# Altium schematic symbol library QUT EESS Schems.SchLib: 25 symbols
Pins are listed as number, name and electrical type; pins without a type are passive.

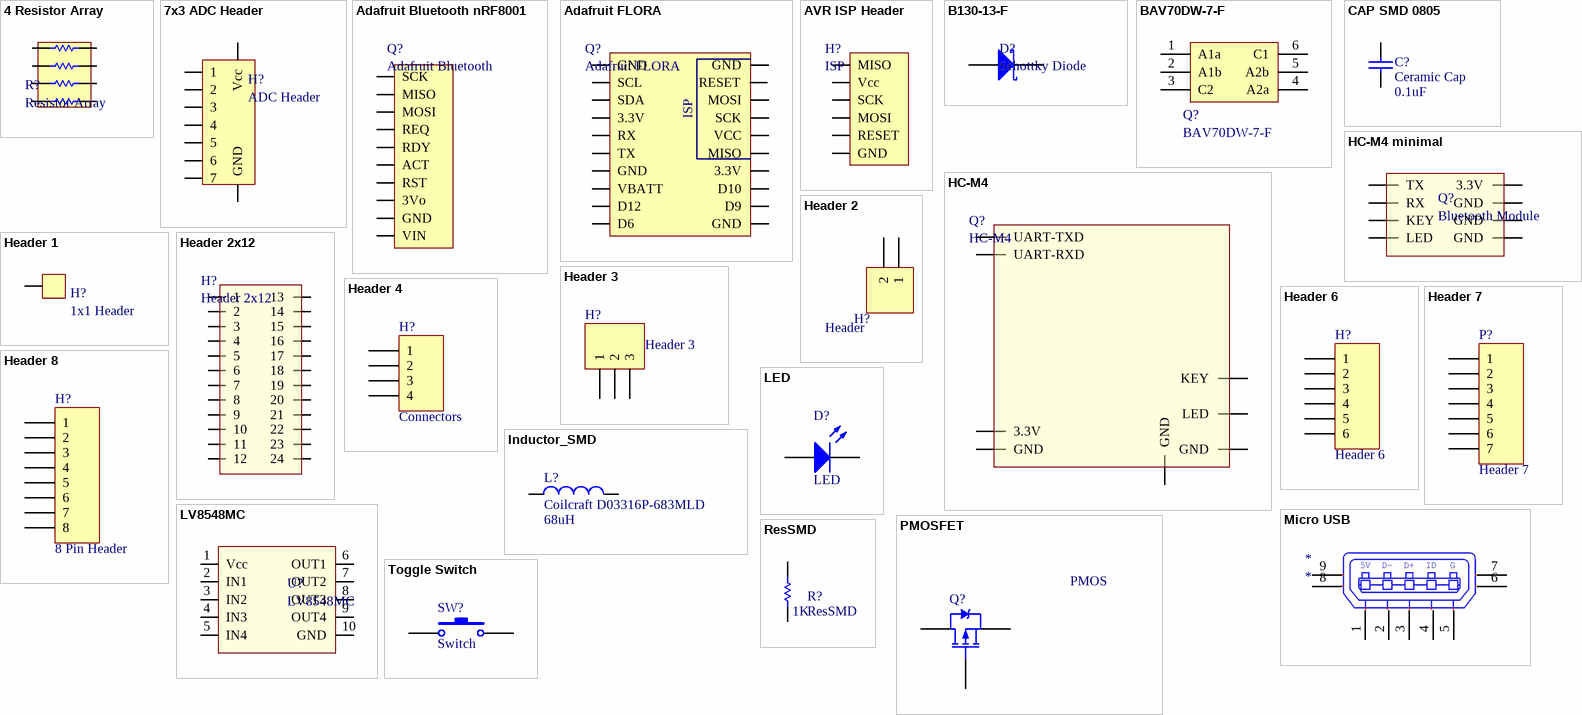
[diagram p0: symbols 4 Resistor Array to Toggle Switch]

## 4 Resistor Array
designator R?, comment Resistor Array
8 pin 4 resistor array
footprint ACAS 0612 AT Res array (8 Pin Resistor Array)
pins: 1, 2, 3, 4, 5, 6, 7, 8

## 7x3 ADC Header
designator H?, comment ADC Header
An ADC header with 7 individual pins and 2x7 power pins
footprint Header 7x3 (Standard 2.54mm pitch 7x3 pin NOTE PIN NUMBERING)
pins: 1, 2, 3, 4, 5, 6, 7, 8 Vcc, 9 hidden to +5V, 10 hidden to +5V, 11 hidden to +5V, 12 hidden to +5V, 13 hidden to +5V, 14 hidden to +5V, 15 GND, 16 hidden to GND, 17 hidden to GND, 18 hidden to GND, 19 hidden to GND, 20 hidden to GND, 21 hidden to GND

## Adafruit Bluetooth nRF8001
designator Q?, comment Adafruit Bluetooth
Breakout for the Adafruit Bluetooth module NRF8001 BLE 4.0
footprint Adafruit Bluetooth NRF8001 (Breakout for the Adafruit Bluetooth module NRF8001 BLE 4.0)
pins: 1 SCK, 2 MISO, 3 MOSI, 4 REQ, 5 RDY, 6 ACT, 7 RST, 8 3Vo, 9 GND, 10 VIN

## Adafruit FLORA
designator Q?
Adafruit FLORA Break Out
footprint Adafruit FLORA (Breakout for the Adafruit FLORA)
pins: 1 GND, 2 SCL, 3 SDA, 4 3.3V, 5 RX, 6 TX, 7 GND, 8 VBATT, 9 D12, 10 D6, 11 GND, 12 D9, 13 D10, 14 3.3V, 15 MISO, 16 VCC, 17 SCK, 18 MOSI, 19 RESET, 20 GND
text: ISP

## AVR ISP Header
designator H?, comment ISP
AVR ISP Header
footprint AVR ISP THROUGH (Standard 2x3 AVR ISP Header)
footprint AVR ISP SMD (Standard 2x3 AVR ISP SMD Header)
pins: 1 MISO, 2 Vcc, 3 SCK, 4 MOSI, 5 RESET, 6 GND

## B130-13-F
designator D?, comment Schottky Diode
footprint B130-13-F
pins: A, K

## BAV70DW-7-F
designator Q?
2 Dual ESD Diode
footprint BAV70DW-7-F
pins: 1 A1a, 2 A1b, 3 C2, 4 A2a, 5 A2b, 6 C1

## CAP SMD 0805
designator C?, comment Ceramic Cap  value 0.1uF
Multi-layer ceramic capacitor 0805 size
footprint RES SMD 0805
pins: 1, 2

## HC-M4
designator Q?
Bluetooth Module
footprint HC-M4
pins: 1 UART-TXD, 2 UART-RXD, 3 hidden to GND, 4 hidden to GND, 5 hidden to GND, 6 hidden to GND, 7 hidden to GND, 8 hidden to GND, 9 hidden to GND, 10 hidden to GND, 11 hidden to GND, 12 3.3V, 13 GND, 14 hidden to GND, 15 hidden to GND, 16 hidden to GND, 17 hidden to GND, 18 hidden to GND, 19 hidden to 20, 20 hidden to GND, 21 GND, 22 GND, 23 hidden to GND, 24 LED, 25 hidden to GND, 26 KEY, 27 hidden to GND, 28 hidden to GND, 29 hidden to GND, 30 hidden to GND, 31 hidden to GND, 32 hidden to GND, 33 hidden to GND, 34 hidden to GND

## HC-M4 minimal
designator Q?, comment Bluetooth Module
footprint HC-M4
pins: 1 TX, 2 RX, 12 3.3V, 13 GND, 21 GND, 22 GND, 24 LED, 26 KEY

## Header 1
designator H?, comment 1x1 Header
Header, 1x1 Pin
footprint Header 1 Pin (Single Male Header 1x1)
pins: 1

## Header 2
designator H?, comment Header
Header, 2-Pin; LatestRevisionDate: 17-Jul-2002; LatestRevisionNote: Re-released for DXP Platform.; Publisher: Altium Limited
signal-integrity model Connector
footprint Header 2 Pin (2x1 Header)
footprint Header2way (phoenix contact 2 way screw terminal header)
pins: 1, 2

## Header 2x12
designator H?
footprint Header 2x12
pins: 1, 2, 3, 4, 5, 6, 7, 8, 9, 10, 11, 12, 13, 14, 15, 16, 17, 18, 19, 20, 21, 22, 23, 24

## Header 3
designator H?
Header, 3-Pin; LatestRevisionDate: 17-Jul-2002; LatestRevisionNote: Re-released for DXP Platform.; Publisher: Altium Limited
signal-integrity model Connector
footprint HEADER3WAY
pins: 1, 2, 3

## Header 4
designator H?, comment Connectors
Header, 4-Pin; LatestRevisionDate: 17-Jul-2002; LatestRevisionNote: Re-released for DXP Platform.; Publisher: Altium Limited
signal-integrity model Connector
footprint Header 4 Pin
pins: 1, 2, 3, 4

## Header 6
designator H?
Header, 6-Pin; LatestRevisionDate: 17-Jul-2002; LatestRevisionNote: Re-released for DXP Platform.; Publisher: Altium Limited
signal-integrity model Connector
footprint Header 6 Pin
pins: 1, 2, 3, 4, 5, 6

## Header 7
designator P?
Header, 7-Pin; LatestRevisionDate: 17-Jul-2002; LatestRevisionNote: Re-released for DXP Platform.; Publisher: Altium Limited
signal-integrity model Connector
footprint HEADER 7 PIN
pins: 1, 2, 3, 4, 5, 6, 7

## Header 8
designator H?, comment 8 Pin Header
Header, 8-Pin; LatestRevisionDate: 17-Jul-2002; LatestRevisionNote: Re-released for DXP Platform.; Publisher: Altium Limited
signal-integrity model Connector
footprint Header 8 PIN
pins: 1, 2, 3, 4, 5, 6, 7, 8

## Inductor_SMD
designator L?, comment Coilcraft D03316P-683MLD  value 68uH
Inductor; Code_IEC: 1005; Published: 8-Jun-2000; LatestRevisionDate: 29-May-2009; LatestRevisionNote: IPC-7351 Footprint Added.; PackageReference: 0402-A; Publisher: Altium Limited; PackageDescription: Chip Inductor; Code_JEITA: 0402
footprint 68UH_IND (coilcraft 68uH inductor casing Surface Mount)
footprint VLP6045LT-330M
pins: 1, 2

## LED
designator D?
simulation model LED0 (Diode)
footprint 0805 LED (LED Body 1.6mm x 0.8mm(LxW typ))
pins: 1 A, 2 K

## LV8548MC
designator U?
H-Bridge motor driver 12V 2CH
footprint LV8548MC
pins: 1 Vcc, 2 IN1, 3 IN2, 4 IN3, 5 IN4, 6 OUT1, 7 OUT2, 8 OUT3, 9 OUT4, 10 GND

## Micro USB
designator *
footprint Micro USB
pins: 1 5V, 2 5V, 3 5V, 4 5V, 5 5V, 6 5V, 7 5V, 8 5V, 9 5V

## PMOSFET
designator Q?, comment PMOS
P-Channel Power MOSFET; Note: Pin 4 not drawn and electrically connected to Pin 2.; Published: 8-Jun-2000; LatestRevisionDate: 17-Jul-2002; LatestRevisionNote: Re-released for DXP Platform.; DatasheetVersion: PD-9.390D; PackageReference: TO-220AB; Publisher: Altium Limited; Code_JEDEC: TO-220-AB; ComponentLink1Description: Manufacturer Link; ComponentLink1URL: http://www.irf.com/
simulation model IRF9510 (Spice Subcircuit)
footprint Pch MOSFET (RRR030P03 30V 3A PMOSFET)
pins: 1 G, 2 S, 3 D

## ResSMD
designator R?  value 1K
Resistor
simulation model RESISTOR (Resistor)
signal-integrity model Res
footprint RES SMD 0805
footprint RESC2012M (Footprint not found)
footprint RES SMD 2512 (Standard SMD 2512 footprint)
pins: 1, 2

## Toggle Switch
designator SW?, comment Switch
Momentary tactile switch; Published: 24-Mar-1999; LatestRevisionDate: 17-Jul-2002; LatestRevisionNote: Re-released for DXP Platform.; PackageReference: SPST-2; Publisher: Altium Limited; PackageDescription: Switch; 2 Leads
footprint T Switch (1MS1T1B1M1RE SPDT)
footprint FSM Tactile Push Button (FSM2JSMA Tactile Push Button)
pins: 1, 2